# Altium footprint library Ale.PcbLib: 181 footprints (part 4 of 12)
Each footprint in its own frame and in the unit in brackets; x right, y up, seen from the top. Pads: shape width x height; smd on the part's side, far side on the other; paste and mask are expansions set on the pad; w line width, h text height; cw(c..) or ccw(c..) is an arc to the next point about the centre after c.
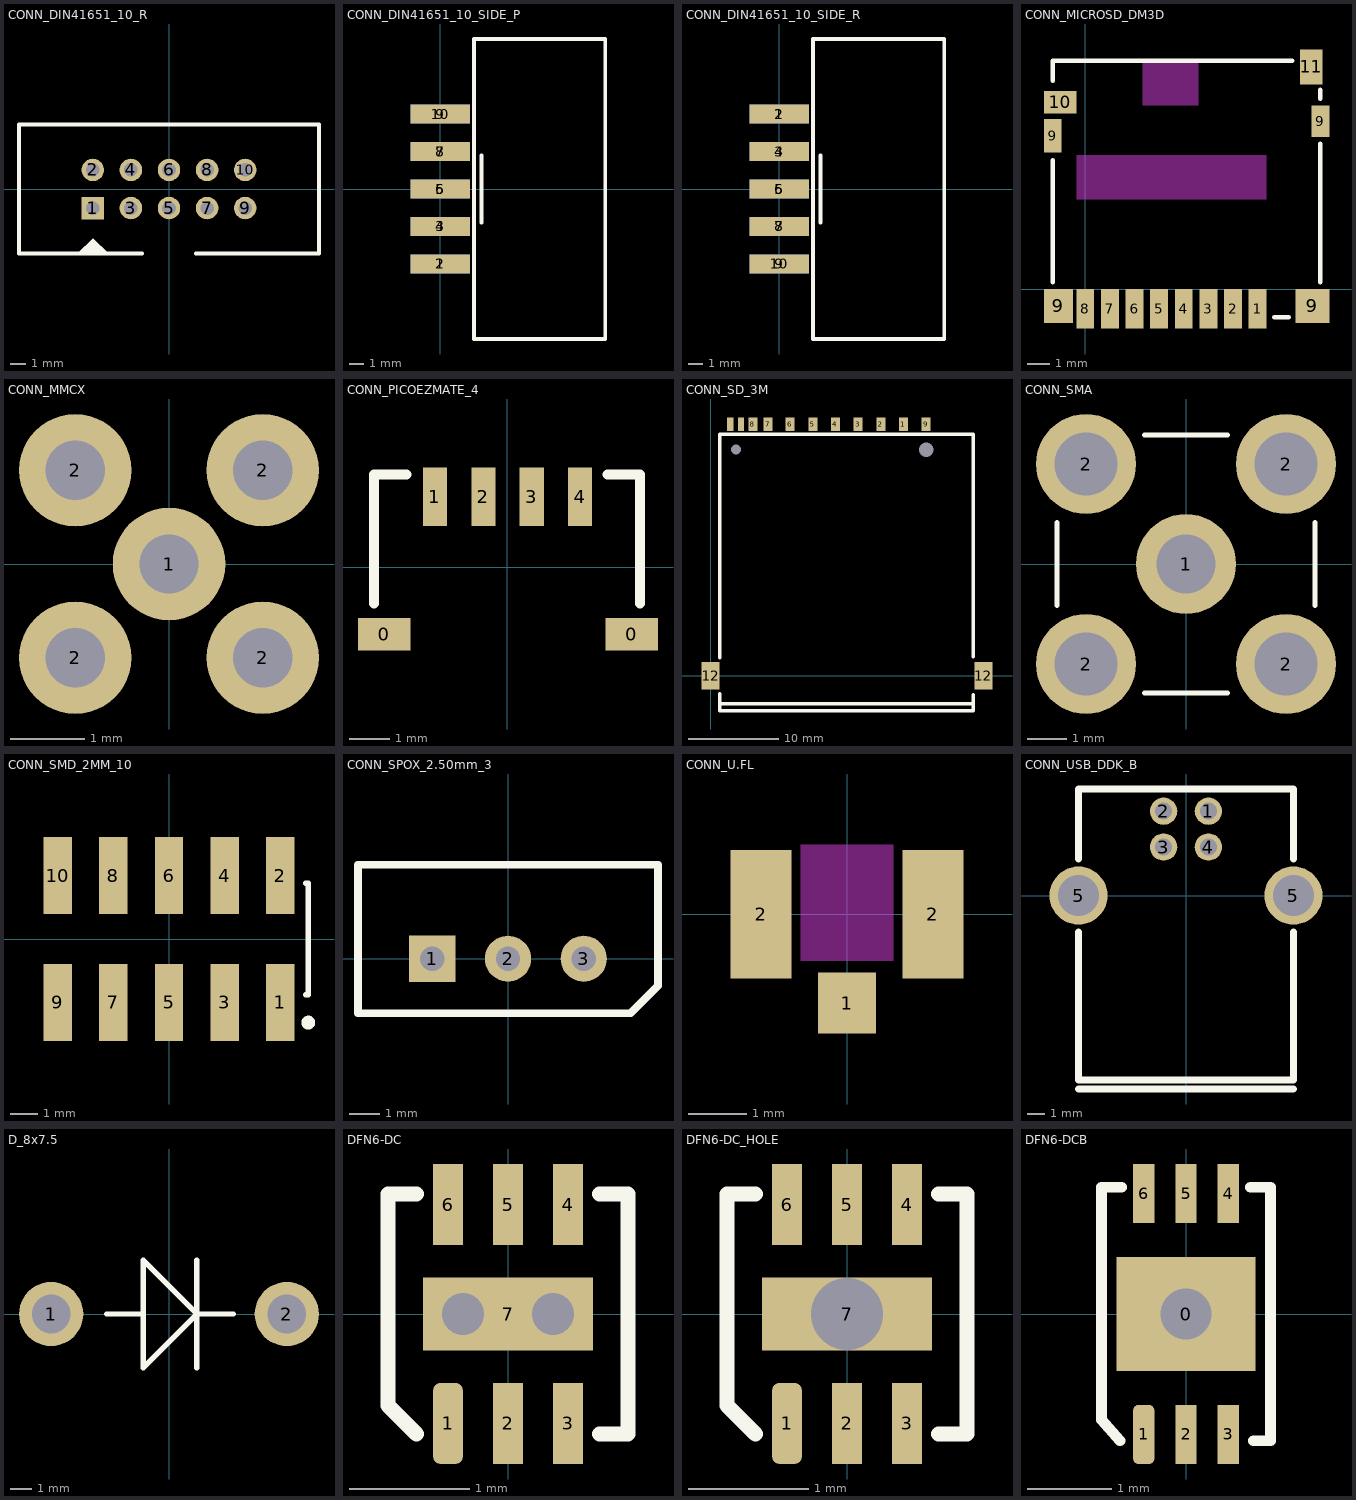
[diagram p3: the footprints below, top view; thin cyan lines are the x and y axes]

## CONN_DIN41651_10_R [mm] "DIN41651 10-pin connector, side soldering, receptacle (male)"
height 9.4
pads (10):
  rect 1.5x1.5 hole 0.9: 1(-5.08,-1.27)
  round 1.5 hole 0.9: 2(-5.08,1.27) 3(-2.54,-1.27) 4(-2.54,1.27) 5(0,-1.27) 6(0,1.27) 7(2.54,-1.27) 8(2.54,1.27) 9(5.08,-1.27) 10(5.08,1.27)
Top Overlay:
  region: -6.096,-4.3 -5.098,-3.302 -5.062,-3.302 -4.064,-4.3
  lines w0.25: -1.796,-4.3 -10,-4.3 -10,4.3 10,4.3 10,-4.3 1.796,-4.3
3D body: height 9.4, standoff 0, extent -10.125,-4.425 10.125,4.425

## CONN_DIN41651_10_SIDE_P [mm] "DIN41651 10-pin connector, side soldering, plug (female)"
height 4.6
pads (10):
  rect 4x1.27 smd: 1(0,-5.08) 3(0,-2.54) 5(0,0) 7(0,2.54) 9(0,5.08)
  rect 4x1.27 smd far side: 2(0,-5.08) 4(0,-2.54) 6(0,0) 8(0,2.54) 10(0,5.08)
Top Overlay:
  lines w0.254: 2.794,-2.286 2.794,2.286 ; 2.286,-10.16 2.286,10.16 11.176,10.16 11.176,-10.16 2.286,-10.16
3D body: height 4.6, standoff -2.3, extent 2.287,-10.159 11.175,10.159

## CONN_DIN41651_10_SIDE_R [mm] "DIN41651 10-pin connector, side soldering, receptacle (male)"
height 4.6
pads (10):
  rect 4x1.27 smd: 1(0,5.08) 3(0,2.54) 5(0,0) 7(0,-2.54) 9(0,-5.08)
  rect 4x1.27 smd far side: 2(0,5.08) 4(0,2.54) 6(0,0) 8(0,-2.54) 10(0,-5.08)
Top Overlay:
  lines w0.254: 2.794,-2.286 2.794,2.286 ; 2.286,-10.16 11.176,-10.16 11.176,10.16 2.286,10.16 2.286,-10.16
3D body: height 4.6, standoff -2.3, extent 2.287,-10.159 11.175,10.159

## CONN_MICROSD_DM3D [mm] "Hirose DM3D-SF MicroSD push-pull connector"
height 1.55
pads (14):
  rect 0.8x1.75 smd: 1(7.7,-0.875) 2(6.6,-0.875) 3(5.5,-0.875) 4(4.4,-0.875) 5(3.3,-0.875) 6(2.2,-0.875) 7(1.1,-0.875) 8(0,-0.875)
  rect 0.8x1.5 smd: 9(-1.45,6.85)
  rect 1.3x1.5 smd: 9(-1.2,-0.75)
  rect 1.5x1.5 smd: 9(10.15,-0.75)
  rect 0.8x1.4 smd: 9(10.5,7.5)
  rect 1.45x1 smd: 10(-1.125,8.35)
  rect 1x1.55 smd: 11(10.1,9.925)
Top Layer keep-out:
  region: 8.1,6 -0.4,6 -0.4,4 8.1,4
  region: 5.05,10.2 2.55,10.2 2.55,8.2 5.05,8.2
Top Overlay:
  lines w0.2: -1.45,0.3 -1.45,5.75 ; -1.45,9.3 -1.45,10.2 9.25,10.2 ; 8.45,-1.25 9.1,-1.25 ; 10.5,0.3 10.5,6.5 ; 10.5,8.5 10.5,8.9
3D body: height 0.85, standoff 0, extent -1,-5.6 10,9.4
3D body: height 1.55, standoff 0, extent -1.45,-1.25 10.5,10.2

## CONN_MMCX [mil] "MMCX antenna connector"
height 177.17
pads (5):
  round 60 hole 31.5: 1(0,0) 2(-50,-50) 2(-50,50) 2(50,-50) 2(50,50)
3D body: height 177.17, standoff 39.37, extent -68.35,-68.76 68.9,68.76
3D body: height 39.37, standoff 0, extent -68.9,-68.9 68.9,68.9

## CONN_PICOEZMATE_4 [mm] "Molex Pico-EZmate connector, 4 pins"
pads (6):
  rect 1.3x0.8 smd: 0(-3.048,-1.663) 0(3.094,-1.663)
  rect 0.6x1.45 smd: 1(-1.788,1.752) 2(-0.588,1.752) 3(0.612,1.752) 4(1.812,1.752)
Top Overlay:
  lines w0.254: -3.3,-0.9 -3.3,2.3 -2.5,2.3 ; 2.5,2.3 3.3,2.3 3.3,-0.9
3D body: height 1.55, standoff 0, extent -3.301,-2.276 3.301,2.276

## CONN_SD_3M [mm] "3M Secure Digital Card Connector"
height 3.1
pads (15):
  round 0 hole 1.1: 0(2.78,24.95)
  round 0 hole 1.6: 0(23.78,24.95)
  rect 1x1.5 smd: 1(21.28,27.75) 2(18.78,27.75) 3(16.28,27.75) 4(13.78,27.75) 5(11.28,27.75) 6(8.78,27.75) 7(6.355,27.75) 8(4.655,27.75) 9(23.78,27.75)
  rect 0.7x1.5 smd: 10(3.355,27.75) 11(2.155,27.75)
  rect 2x3 smd: 12(0,0) 12(30.1,0)
Top Overlay:
  lines w0.4: 1,-3.1 28.9,-3.1 ; 1,-2 1,-3.85 29,-3.85 29,-2.1 ; 1,2 1,26.65 29,26.65 29,2.1

## CONN_SMA [mm] "SMA straight PCB socket"
height 7.8
pads (5):
  round 2.54 hole 1.5: 1(0,0)
  round 2.54 hole 1.6: 2(-2.54,-2.54) 2(-2.54,2.54) 2(2.54,-2.54) 2(2.54,2.54)
Top Overlay:
  lines w0.127: -3.275,-1.05 -3.275,1.05 ; -1.05,-3.275 1.05,-3.275 ; -1.05,3.275 1.05,3.275 ; 3.275,-1.05 3.275,1.05

## CONN_SMD_2MM_10 [mm] "Connector, Socket Strip, Double Row, SMT, 10 Position, Vertical, Pitch 2mm"
height 3.56
pads (10):
  rect 1.02x2.77 smd: 1(4,-2.275) 2(4,2.275) 3(2,-2.275) 4(2,2.275) 5(0,-2.275) 6(0,2.275) 7(-2,-2.275) 8(-2,2.275) 9(-4,-2.275) 10(-4,2.275)
Top Overlay:
  circle w0.25: c5,-3 r0.125
  lines w0.2: 4.91,-2 5,-2 5,2 4.91,2
Mechanical 13:
  lines w0.1: 5,-2 5,2

## CONN_SPOX_2.50mm_3 [mil] "Molex Spox 2.50mm series connector"
height 232.28
pads (3):
  rect 60x60 hole 31.5: 1(-98.43,0)
  round 60 hole 31.5: 2(0,0) 3(98.43,0)
Top Overlay:
  lines w10: -194.88,-70.87 159.13,-70.87 194.88,-35.12 194.88,122.05 -194.88,122.05 -194.88,-70.87
3D body: height 232.28, standoff 0, extent -194.9,-70.89 194.9,122.07

## CONN_U.FL [mm] "U.FL UHF/SHF miniature connector"
height 1.25
pads (3):
  rect 1x1.05 smd: 1(0,-1.525)
  rect 1.05x2.2 smd: 2(-1.475,0) 2(1.475,0)
Top Layer keep-out:
  rectangle: -0.8,-0.8 0.8,1.2
3D body: height 1.25, standoff 0.35, extent -1,-1 1,1
3D body: height 0.35, standoff 0, extent -1.299,-1.299 1.299,1.299

## CONN_USB_DDK_B [mm] "Type B USB connector (DDK)"
height 10.75
pads (6):
  round 1.524 hole 0.95: 1(1.25,4.71) 2(-1.25,4.71) 3(-1.25,2.71) 4(1.25,2.71)
  round 3.25 hole 2.3: 5(-6,0) 5(6,0)
Top Overlay:
  lines w0.4: -6,-10.8 6,-10.8 ; -6,-2.045 -6,-10.3 6,-10.3 6,-2.045 ; -6,2.055 -6,5.95 6,5.95 6,2.055
3D body: height 10.75, standoff 0, extent -5.999,-10.299 5.999,5.949

## D_8x7.5 [mm] "Diode, through-hole, 8mm diameter x 7.5mm body"
pads (2):
  round 3 hole 1.8: 1(-5.5,0) 2(5.5,0)
Top Overlay:
  lines w0.254: -2.9,0 -1.2,0 ; 1.3,-2.5 1.3,2.5 ; 3,0 1.3,0 ; 1.3,0 -1.2,-2.5 -1.2,2.5 1.3,0
3D body: height 8, standoff 0, extent -3.75,-3.999 3.75,3.999

## DFN6-DC [mm] "6-Lead Plastic DFN (2mm × 2mm)"
height 0.75
pads (7):
  rrect50% 0.25x0.675 smd: 1(-0.5,-0.912)
  rect 0.25x0.675 smd: 2(0,-0.912) 3(0.5,-0.912) 4(0.5,0.912) 5(0,0.912) 6(-0.5,0.912)
  rect 1.42x0.61 all layers, no hole: 7(0,0)
via 0.375,0 diameter 0.5 hole 0.35
via -0.375,0 diameter 0.5 hole 0.35
Top Overlay:
  lines w0.127: -1,-0.75 -1,-0.762 ; -0.762,-1 -1,-0.762 ; -0.762,1 -1,1 -1,-0.762 ; 0.762,-1 1,-1 1,1 0.762,1
3D body: height 0.75, standoff 0, extent -1,-1 1,1

## DFN6-DC_HOLE [mm] "6-Lead Plastic DFN (2mm × 2mm) with soldering hole"
height 0.75
pads (7):
  rrect50% 0.25x0.675 smd: 1(-0.5,-0.912)
  rect 0.25x0.675 smd: 2(0,-0.912) 3(0.5,-0.912) 4(0.5,0.912) 5(0,0.912) 6(-0.5,0.912)
  rect 1.42x0.61 hole 0.6: 7(0,0)
Top Overlay:
  lines w0.127: -1,-0.75 -1,-0.762 ; -0.762,-1 -1,-0.762 ; -0.762,1 -1,1 -1,-0.762 ; 0.762,-1 1,-1 1,1 0.762,1
3D body: height 0.75, standoff 0, extent -1,-1 1,1

## DFN6-DCB [mm] "6-Lead Plastic DFN (2mm × 3mm)"
height 0.75
pads (7):
  rect 1.65x1.35 / inner round 0 / far side round 1 hole 0.6: 0(0,0)
  rrect50% 0.25x0.7 smd: 1(-0.5,-1.425)
  rect 0.25x0.7 smd: 2(0,-1.425) 3(0.5,-1.425) 4(0.5,1.425) 5(0,1.425) 6(-0.5,1.425)
Top Overlay:
  lines w0.127: -1,-0.762 -1,-0.75 ; -0.781,-1.5 -1,-1.25 -1,1.5 -0.762,1.5 ; 0.762,1.5 1,1.5 1,-1.5 0.8,-1.5